# EAGLE library part AD8000YRDZ-REEL7 (library SiPM_AD8000)
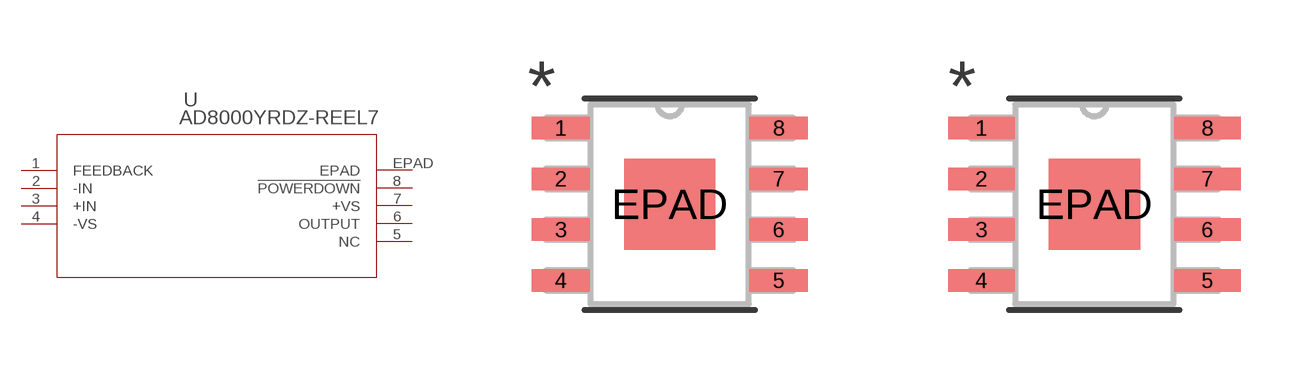
[diagram p0: symbol with the pads of RD_8_1_ADI; footprints RD_8_1_ADI, RD_8_1_ADI-M]

Designator prefix U

## AD8000YRDZ-REEL7 (BUILT_BY: EMA_Jessica; COPYRIGHT: Copyright (C) 2018 Accelerated Designs. All rights reserved; MANUFACTURER_PART_NUMBER: AD8000YRDZ-REEL7; SOURCELIBRARY: Analog_2019-03-01; VENDOR: Analog Devices Inc)  [RD_8_1_ADI]
1  FEEDBACK  pas
2  -IN  in
3  +IN  in
4  -VS  pwr
5  NC  nc
6  OUTPUT  out
7  +VS  pwr
8  !POWERDOWN  pas
EPAD  EPAD  pas

## AD8000YRDZ-REEL7RD_8_1_ADI-M (BUILT_BY: EMA_Jessica; COPYRIGHT: Copyright (C) 2018 Accelerated Designs. All rights reserved; MANUFACTURER_PART_NUMBER: AD8000YRDZ-REEL7; SOURCELIBRARY: Analog_2019-03-01; VENDOR: Analog Devices Inc)  [RD_8_1_ADI-M]
Pads as for RD_8_1_ADI

## AD8000YRDZ-REEL7RD_8_1_ADI-L (BUILT_BY: EMA_Jessica; COPYRIGHT: Copyright (C) 2018 Accelerated Designs. All rights reserved; MANUFACTURER_PART_NUMBER: AD8000YRDZ-REEL7; SOURCELIBRARY: Analog_2019-03-01; VENDOR: Analog Devices Inc)  [RD_8_1_ADI-L]
Pads as for RD_8_1_ADI

## Footprint RD_8_1_ADI (pad centres in mm)
smd 1.46 x 0.559: 1 -2.724,1.905; 2 -2.724,0.635; 3 -2.724,-0.635; 4 -2.724,-1.905; 5 2.724,-1.905; 6 2.724,-0.635; 7 2.724,0.635; 8 2.724,1.905
smd 2.286 x 2.286: EPAD 0,0

## Footprint RD_8_1_ADI-M (pad centres in mm)
smd 1.664 x 0.559: 1 -2.826,1.905; 2 -2.826,0.635; 3 -2.826,-0.635; 4 -2.826,-1.905; 5 2.826,-1.905; 6 2.826,-0.635; 7 2.826,0.635; 8 2.826,1.905
smd 2.286 x 2.286: EPAD 0,0

## Footprint RD_8_1_ADI-L (pad centres in mm)
smd 1.257 x 0.508: 1 -2.623,1.905; 2 -2.623,0.635; 3 -2.623,-0.635; 4 -2.623,-1.905; 5 2.623,-1.905; 6 2.623,-0.635; 7 2.623,0.635; 8 2.623,1.905
smd 2.286 x 2.286: EPAD 0,0